# Altium footprint library 22232041.PcbLib: 1 footprints
Each footprint in its own frame and in the unit in brackets; x right, y up, seen from the top. Pads: shape width x height; smd on the part's side, far side on the other; paste and mask are expansions set on the pad; w line width, h text height; cw(c..) or ccw(c..) is an arc to the next point about the centre after c.
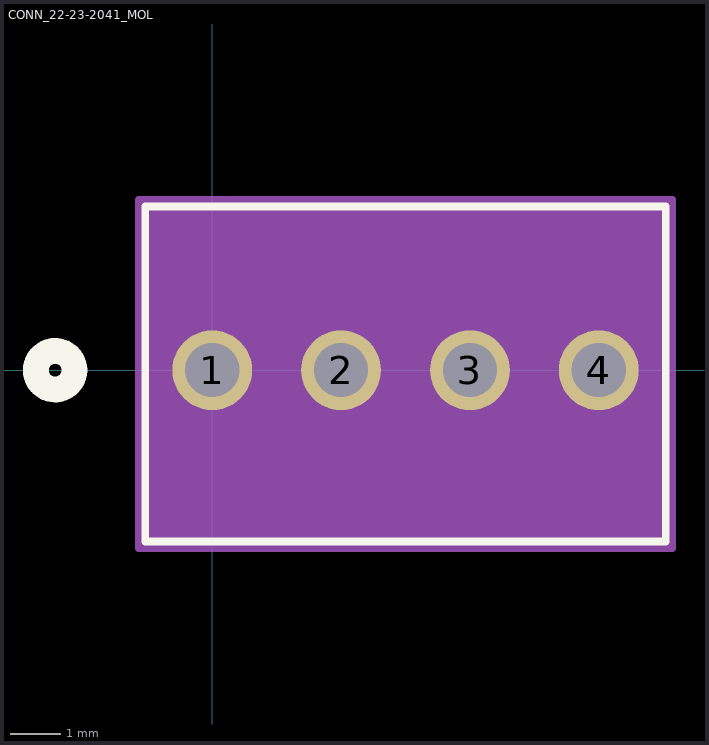
[diagram p0: the footprint, top view; thin cyan lines are the x and y axes]

## CONN_22-23-2041_MOL [mil]
pads (4):
  round 62 / inner round 60 / far side round 62 hole 42 paste-31 mask+0: 1(0,0) 2(100,0) 3(200,0) 4(300,0)
Top Overlay:
  circle w20: c-122,0 r15
  lines w6: -52,-132.95 352,-132.95 352,127.05 -52,127.05 -52,-132.95
Bottom Overlay:
  circle w20: c-122,0 r15
Mechanical 13:
  circle w20: c0,75 r15
  lines w1: -47,-127.95 347,-127.95 347,122.05 -47,122.05 -47,-127.95
Mechanical 15:
  region: 357,132.05 -57,132.05 -57,-137.95 357,-137.95
  lines w6: -57,-137.95 -57,132.05 357,132.05 357,-137.95 -57,-137.95